# Altium footprint library RESISTOR.PcbLib: 26 footprints (part 1 of 2)
Each footprint in its own frame and in the unit in brackets; x right, y up, seen from the top. Pads: shape width x height; smd on the part's side, far side on the other; paste and mask are expansions set on the pad; w line width, h text height; cw(c..) or ccw(c..) is an arc to the next point about the centre after c.
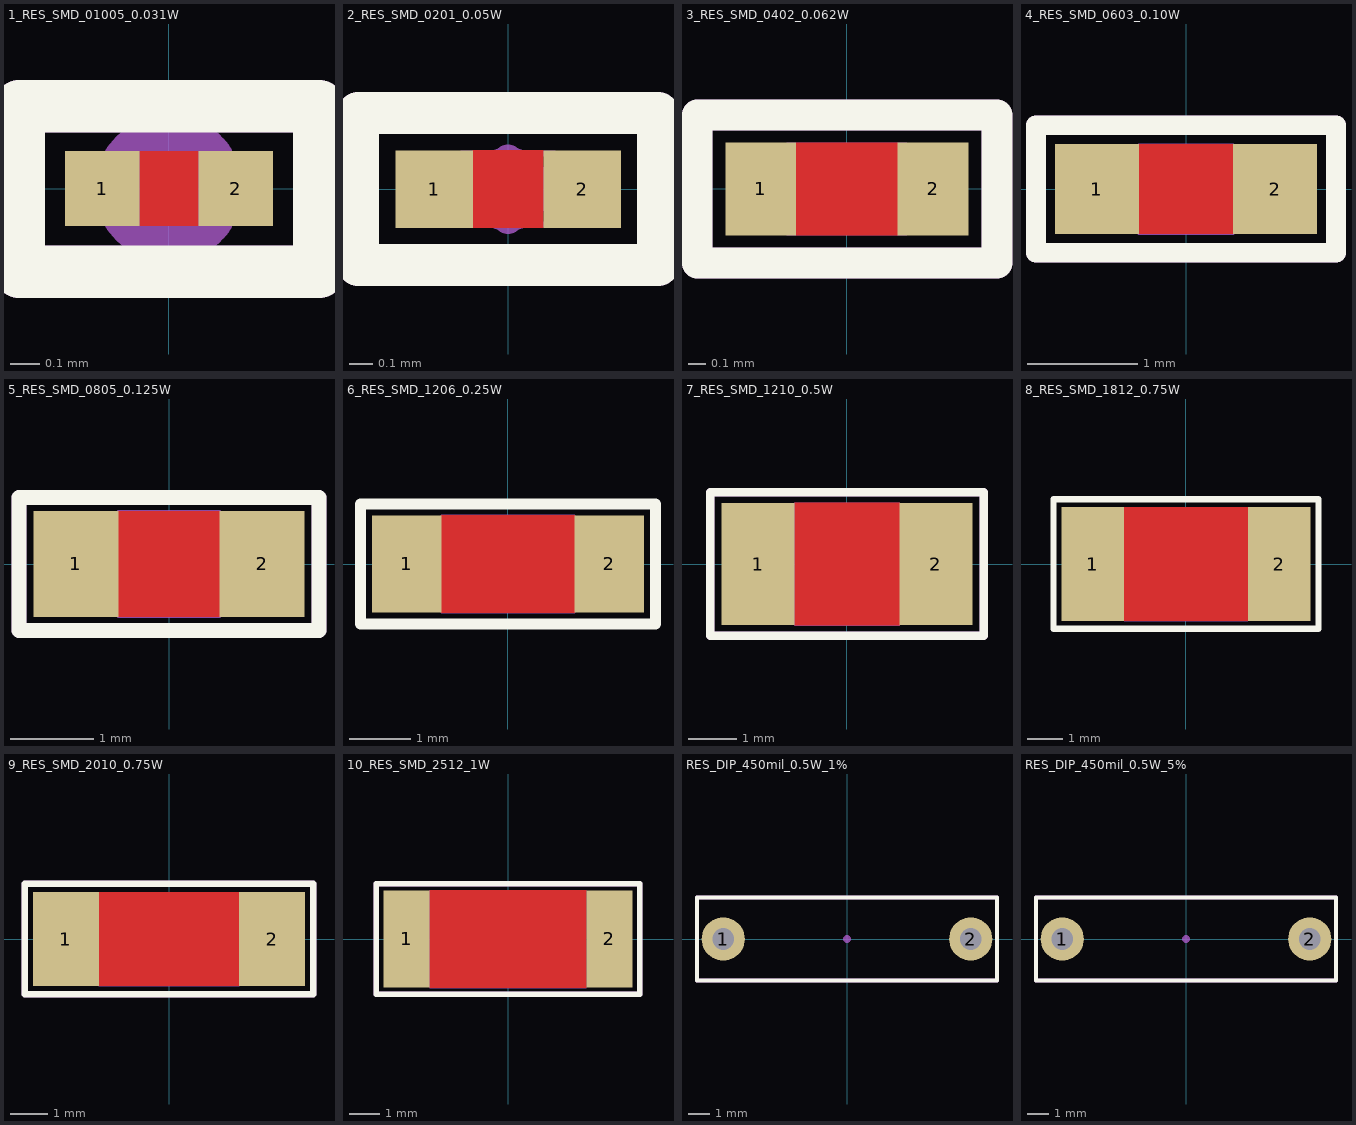
[diagram p0: the footprints below, top view; thin cyan lines are the x and y axes]

## 1_RES_SMD_01005_0.031W [mil]
pads (2):
  rect 10x10 smd mask-99999: 1(-8.95,0) 2(8.95,0)
Top Layer:
  pour cut-out: -3.95,5 3.95,5 3.95,-5 -3.95,-5
Top Overlay:
  lines w7: -20.11,-11.17 20.13,-11.17 20.13,11.04 -20.11,11.04 -20.11,-11.17
Top Solder:
  region: -16.45,-7.5 -16.45,7.5 -1.45,7.5 -1.45,-7.5
  region: 1.45,-7.5 1.45,7.5 16.45,7.5 16.45,-7.5
Top Component Center:
  lines w5: -5,0 5,0 ; 0,-5 0,5
Top Component Outline:
  lines w5: -4.92,-4.92 5,-4.92 5,4.92 -4.92,4.92 -4.92,-4.92
Top Courtyard:
  lines w7: -20.11,-11.17 20.13,-11.17 20.13,11.04 -20.11,11.04 -20.11,-11.17
Top Glue Points:
  circle w10: c0,0 r4.92
3D body "R01005.STEP": height 5.56, standoff 0.44, extent -7.85,-3.94 7.9,3.94

## 2_RES_SMD_0201_0.05W [mil]
pads (2):
  rect 13x13 smd mask-99999: 1(-12.44,0) 2(12.44,0)
Top Layer:
  pour cut-out: -5.94,6.5 5.94,6.5 5.94,-6.5 -5.94,-6.5
Top Overlay:
  lines w7: -25.22,-12.74 25.18,-12.74 25.18,12.79 -25.22,12.79 -25.22,-12.74
Top Solder:
  region: 3.44,-9 3.44,9 21.44,9 21.44,-9
  region: -21.44,-9 -21.44,9 -3.44,9 -3.44,-9
Top Component Center:
  lines w5: -5,0 5,0 ; 0,-5 0,5
Top Component Outline:
  lines w1: -7.82,-5.98 7.81,-5.98 7.81,5.98 -7.82,5.98 -7.82,-5.98
Top Courtyard:
  lines w7: -25.22,-12.74 25.18,-12.74 25.18,12.79 -25.22,12.79 -25.22,-12.74
Top Glue Points:
  circle w10: c0,0 r2
3D body "R0201.STEP": height 9.03, standoff -0.03, extent -11.91,-5.91 11.71,5.91

## 3_RES_SMD_0402_0.062W [mil]
pads (2):
  rect 16x21 smd mask-99999: 1(-19.5,0) 2(19.5,0)
Top Layer:
  pour cut-out: -11.5,10.5 11.5,10.5 11.5,-10.5 -11.5,-10.5
Top Overlay:
  lines w7: -33.92,-16.8 33.97,-16.8 33.97,16.79 -33.92,16.79 -33.92,-16.8
Top Solder:
  region: -30,-13 -30,13 -9,13 -9,-13
  region: 9,-13 9,13 30,13 30,-13
Top Component Center:
  lines w5: -5,0 5,0 ; 0,-5 0,5
Top Component Outline:
  lines w1: -13.48,-9.98 13.48,-9.98 13.48,9.98 -13.48,9.98 -13.48,-9.98
Top Courtyard:
  lines w7: -33.92,-16.8 33.97,-16.8 33.97,16.79 -33.92,16.79 -33.92,-16.8
Top Glue Points:
  circle w10: c0,0 r2
3D body "R0402.STEP": height 14.07, standoff 0.29, extent -20.08,-9.84 19.29,9.84

## 4_RES_SMD_0603_0.10W [mil]
pads (2):
  rect 30x32 smd mask-99999: 1(-31.82,0) 2(31.82,0)
Top Layer:
  pour cut-out: -16.82,16 16.82,16 16.82,-16 -16.82,-16
Top Overlay:
  lines w7: -53.62,-22.72 53.62,-22.72 53.62,22.72 -53.62,22.72 -53.62,-22.72
Top Solder:
  region: -49.82,-19 -49.82,19 -13.82,19 -13.82,-19
  region: 13.82,-19 13.82,19 49.82,19 49.82,-19
Top Component Center:
  lines w5: -5,0 5,0 ; 0,-5 0,5
Top Component Outline:
  lines w1: -16.82,-16 16.82,-16 16.82,15.8 -16.82,15.8 -16.82,-16
Top Courtyard:
  lines w7: -53.62,-22.72 53.62,-22.72 53.62,22.72 -53.62,22.72 -53.62,-22.72
Top Glue Points:
  circle w10: c0,0 r2
3D body "R0603.STEP": height 18.36, standoff 0.64, extent -31.61,-15.75 31.38,15.75

## 5_RES_SMD_0805_0.125W [mil]
pads (2):
  rect 40x50 smd mask-99999: 1(-43.93,0) 2(43.93,0)
Top Layer:
  pour cut-out: -23.93,25 23.93,25 23.93,-25 -23.93,-25
Top Overlay:
  lines w7: -70.81,-31.38 70.81,-31.38 70.81,31.38 -70.81,31.38 -70.81,-31.38
Top Solder:
  region: 21.43,-27.5 21.43,27.5 66.43,27.5 66.43,-27.5
  region: -66.43,-27.5 -66.43,27.5 -21.43,27.5 -21.43,-27.5
Top Component Center:
  lines w5: -5,0 5,0 ; 0,-5 0,5
Top Component Outline:
  lines w1: -23.93,-25 23.93,-25 23.93,25 -23.93,25 -23.93,-25
Top Courtyard:
  lines w7: -70.81,-31.38 70.81,-31.38 70.81,31.38 -70.81,31.38 -70.81,-31.38
Top Glue Points:
  circle w10: c0,0 r2
3D body "R0805.STEP": height 24.81, standoff 1.19, extent -39.29,-24.61 39.45,24.61

## 6_RES_SMD_1206_0.25W [mil]
pads (2):
  rect 45x63 smd mask-99999: 1(-65.52,0) 2(65.52,0)
Top Layer:
  pour cut-out: -43.02,31.5 43.02,31.5 43.02,-31.5 -43.02,-31.5
Top Overlay:
  lines w7: -95.44,-38.89 95.44,-38.89 95.44,38.89 -95.44,38.89 -95.44,-38.89
Top Solder:
  region: -91.52,-35 -91.52,35 -39.52,35 -39.52,-35
  region: 39.52,-35 39.52,35 91.52,35 91.52,-35
Top Component Center:
  lines w5: -5,0 5,0 ; 0,-5 0,5
Top Component Outline:
  lines w1: -43.02,-31.5 43.02,-31.5 43.02,31.5 -43.02,31.5 -43.02,-31.5
Top Glue Points:
  circle w10: c0,0 r2
3D body "R1206.STEP": height 23.81, standoff 0.19, extent -63.18,-31.5 62.8,31.5

## 7_RES_SMD_1210_0.5W [mil]
pads (2):
  rect 60x100 smd mask-99999: 1(-72.87,0) 2(72.87,0)
Top Layer:
  pour cut-out: -42.87,50 43.18,50 43.18,-50 -42.87,-50
Top Overlay:
  lines w7: -111.97,-58.87 111.97,-58.87 111.97,58.87 -111.97,58.87 -111.97,-58.87
Top Solder:
  region: -107.87,-55 -107.87,55 -37.87,55 -37.87,-55
  region: 37.87,-55 37.87,55 107.87,55 107.87,-55
Top Component Center:
  lines w5: -5,0 5,0 ; 0,-5 0,5
Top Component Outline:
  lines w1: -42.87,-50 43.18,-50 43.18,50 -42.87,50 -42.87,-50
Top Courtyard:
  lines w7: -111.97,-58.87 111.97,-58.87 111.97,58.87 -111.97,58.87 -111.97,-58.87
Top Glue Points:
  circle w10: c0,0 r2
3D body "R1210.STEP": height 23.81, standoff 0.19, extent -62.98,-49.21 63.01,49.21

## 8_RES_SMD_1812_0.75W [mil]
pads (2):
  rect 70x127 smd mask-99999: 1(-104.13,0) 2(104.13,0)
Top Layer:
  pour cut-out: -69.13,63.5 69.13,63.5 69.13,-63.5 -69.13,-63.5
Top Overlay:
  lines w7: -148.19,-72.47 148.19,-72.47 148.19,72.47 -148.19,72.47 -148.19,-72.47
Top Solder:
  region: 64.13,-68.5 64.13,68.5 144.13,68.5 144.13,-68.5
  region: -144.13,-68.5 -144.13,68.5 -64.13,68.5 -64.13,-68.5
Top Component Center:
  lines w5: -5,0 5,0 ; 0,-5 0,5
Top Component Outline:
  lines w1: -69.13,-63.5 69.13,-63.5 69.13,63.5 -69.13,63.5 -69.13,-63.5
Top Glue Points:
  circle w10: c0,0 r2
3D body "R1812.STEP": height 24.81, standoff 1.19, extent -89.29,-62.99 87.87,62.99

## 9_RES_SMD_2010_0.75W [mil]
pads (2):
  rect 70x100 smd mask-99999: 1(-109.84,0) 2(109.84,0)
Top Layer:
  pour cut-out: -74.84,50 74.84,50 74.84,-50 -74.84,-50
Top Overlay:
  lines w7: -153.78,-58.92 153.78,-58.92 153.78,58.92 -153.78,58.92 -153.78,-58.92
Top Solder:
  region: -149.84,-55 -149.84,55 -69.84,55 -69.84,-55
  region: 69.84,-55 69.84,55 149.84,55 149.84,-55
Top Component Center:
  lines w5: -5,0 5,0 ; 0,-5 0,5
Top Component Outline:
  lines w1: -74.84,-50 74.84,-50 74.84,50 -74.84,50 -74.84,-50
Top Courtyard:
  lines w7: -153.78,-58.92 153.78,-58.92 153.78,58.92 -153.78,58.92 -153.78,-58.92
Top Glue Points:
  circle w10: c0,0 r2
3D body "R2010.STEP": height 23.81, standoff 0.19, extent -98.86,-49.21 97.99,49.21

## 10_RES_SMD_2512_1W [mil]
pads (2):
  rect 60x126 smd mask-99999: 1(-131.6,0) 2(131.6,0)
Top Layer:
  pour cut-out: -101.6,63 101.6,63 101.6,-62.99 -101.6,-62.99
Top Overlay:
  lines w7: -170.71,-71.89 170.71,-71.89 170.71,71.89 -170.71,71.89 -170.71,-71.89
Top Solder:
  region: -166.6,-68 -166.6,68 -96.6,68 -96.6,-68
  region: 96.6,-68 96.6,68 166.6,68 166.6,-68
Top Component Center:
  lines w5: -5,0 5,0 ; 0,-5 0,5
Top Component Outline:
  lines w1: -101.6,-63 101.6,-63 101.6,63 -101.6,63 -101.6,-63
Top Courtyard:
  lines w7: -170.71,-71.89 170.71,-71.89 170.71,71.89 -170.71,71.89 -170.71,-71.89
Top Glue Points:
  circle w10: c0,0 r2
3D body "R2512.STEP": height 23.81, standoff 0.19, extent -126.75,-62.99 125.22,62.99

## RES_DIP_350mil_0.25W_1% [mil]

## RES_DIP_350mil_0.25W_5% [mil]

## RES_DIP_400mil_0.25W_1% [mil]

## RES_DIP_400mil_0.25W_5% [mil]

## RES_DIP_450mil_0.5W_1% [mm]
pads (2):
  round 2 hole 1: 1(-5.715,0) 2(5.715,0)
Top Overlay:
  lines w0.178: -6.928,-1.909 6.928,-1.909 6.928,1.909 -6.928,1.909 -6.928,-1.909
Top Component Center:
  lines w0.127: -0.127,0 0.127,0 ; 0,-0.127 0,0.127
Top Courtyard:
  lines w0.178: -6.928,-1.909 6.928,-1.909 6.928,1.909 -6.928,1.909 -6.928,-1.909
Top Glue Points:
  circle w0.254: c0,0 r0.051
3D body "RES_AH_0.5W_450mil_0R_1%.STEP": height 3.94, standoff -5.04, extent -6.015,-1.785 6.015,1.785

## RES_DIP_450mil_0.5W_5% [mm]
pads (2):
  round 2 hole 1: 1(-5.715,0) 2(5.715,0)
Top Overlay:
  lines w0.178: -6.928,-1.909 6.928,-1.909 6.928,1.909 -6.928,1.909 -6.928,-1.909
Top Component Center:
  lines w0.127: -0.127,0 0.127,0 ; 0,-0.127 0,0.127
Top Courtyard:
  lines w0.178: -6.928,-1.909 6.928,-1.909 6.928,1.909 -6.928,1.909 -6.928,-1.909
Top Glue Points:
  circle w0.254: c0,0 r0.051
3D body "RES_AH_0.5W_450mil_0R_5%.STEP": height 3.94, standoff -5.04, extent -6.015,-1.785 6.015,1.785